# EAGLE library part DB9 (library custom)
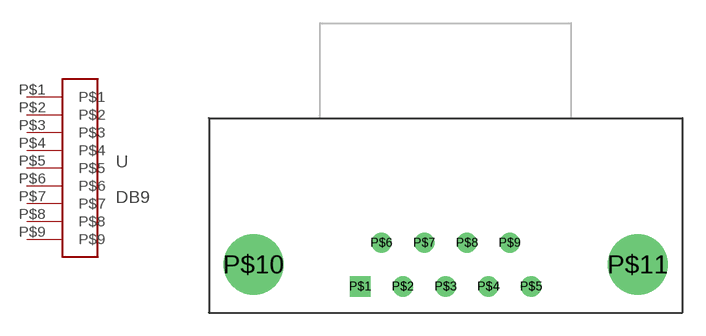
[diagram p5: symbol with the pads of DB9_F_TYCO_5745781-4; footprint DB9_F_TYCO_5745781-4]

Designator prefix -

## DB9  [DB9_F_TYCO_5745781-4]
P$1  P$1
P$2  P$2
P$3  P$3
P$4  P$4
P$5  P$5
P$6  P$6
P$7  P$7
P$8  P$8
P$9  P$9

## Footprint DB9_F_TYCO_5745781-4 (pad centres in mm)
drill 0.8 square: P$1 -5.56,-1.42
drill 0.8 round: P$2 -2.78,-1.42; P$3 0,-1.42; P$4 2.78,-1.42; P$5 5.56,-1.42; P$6 -4.17,1.42; P$7 -1.39,1.42; P$8 1.39,1.42; P$9 4.17,1.42
drill 2.9 round: P$10 -12.5,0; P$11 12.5,0